# Altium integrated library Linear Technology Power Management Switching Regulator LTC1174-LTC3901.IntLib: 2647 symbols (part 159 of 364)
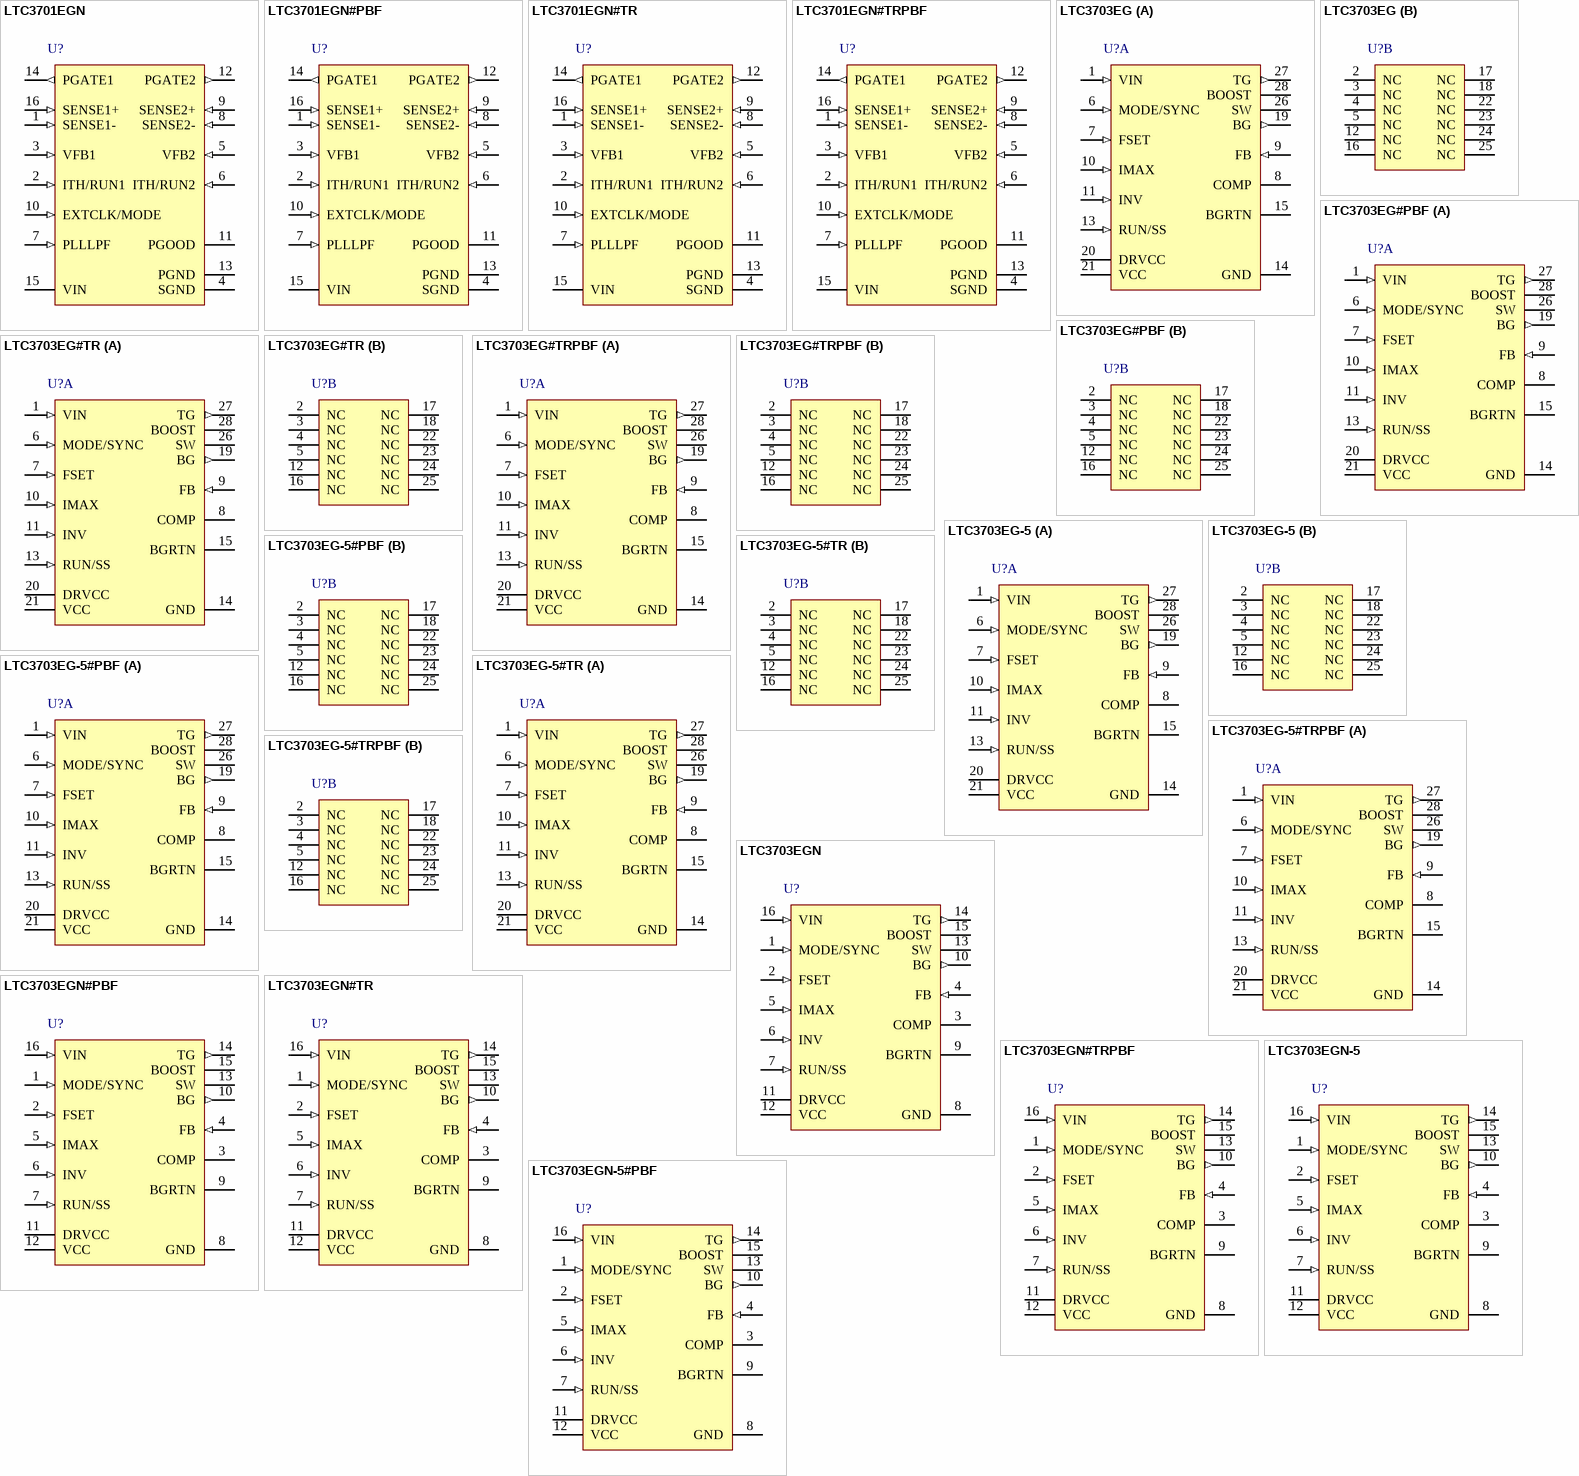
[diagram p196: symbols LTC3701EGN to LTC3703EGN-5#PBF]

## LTC3703EGN#PBF
designator U?
Synchronous Switching Regulator Controller, 16-pin SOP (GN-16), -40 to 85 degC, Pb-Free; Manufacturer: Linear Technology; PartNumber: LTC3703EGN#PBF; Frequency Sync Range: Up to 600kHz; Number of Outputs: 1; DatasheetVersion: Rev. C; PackageVersion: Rev. B, 03/2012; PackageReference: GN-16; PackageDescription: 16-Pin Plastic SSOP, Body 4.9 x 3.9 mm, Pitch 0.635 mm; Supplier 1: Digi-Key; Supplier Part Number 1: LTC3703EGN#PBF-ND; Supplier 2: Farnell; Supplier Part Number 2: 1663716; Supplier 3: Newark; Supplier Part Number 3: 56M8053; RoHS: TRUE; Mounting Technology: Surface Mount; ComponentLink1Description: Manufacturer URL; ComponentLink1URL: http://www.linear.com/; ComponentLink2Description: Datasheet; ComponentLink2URL: http://cds.linear.com/docs/en/datasheet/3703fc.pdf; ComponentLink3Description: Package Specification; ComponentLink3URL: http://cds.linear.com/docs/en/packaging/05081641_B_GN16.pdf
footprint LT-GN-16_N (SOP, 16-Leads, Body 5x4mm, Pitch 0.635mm, IPC Medium Density)
footprint LT-GN-16_L (SOP, 16-Leads, Body 5x4mm, Pitch 0.635mm, IPC High Density)
footprint LT-GN-16_M (SOP, 16-Leads, Body 5x4mm, Pitch 0.635mm, IPC Low Density)
pins: 1 MODE/SYNC (in) "Pulse Skip Mode Enable/Sync Pin. This multifunction pin provides Pulse Skip Mode enable/disable control and an external clock input for synchronization of the internal oscillator. Pulling this pin below 0.8V or to an (See Datasheet)", 2 FSET (in) "Frequency Set. A resistor connected to this pin sets the free running frequency of the internal oscillator. See applications section for resistor value selection details.", 3 COMP "Loop Compensation. This pin is connected directly to the output of the internal error amplifier. An RC network is used at the COMP pin to compensate the feedback loop for optimal transient response.", 4 FB (in) "Feedback Input. Connect FB through a resistor divider network to VOUT to set the output voltage. Also connect the loop compensation network from COMP to FB.", 5 IMAX (in) "Current Limit Set. The IMAX pin sets the current limit comparator threshold. If the voltage drop across the bottom MOSFET exceeds the magnitude of the voltage at IMAX, the controller goes into current limit. The IMAX pin has (See Datasheet)", 6 INV (in) "Top/Bottom Gate Invert. Pulling this pin above 2V sets the controller to operate in step-up (boost) mode with the TG output driving the synchronous MOSFET and the BG output driving the main switch. Below 1V, the controller (See Datasheet)", 7 RUN/SS (in) "Run/Soft-Start. Pulling RUN/SS below 0.9V will shut down the LTC3703, turn off both of the external MOSFET switches and reduce the quiescent supply current to 50uA. A capacitor from RUN/SS to ground will control the turn-on (See Datasheet)", 8 GND (power) "Ground Pin.", 9 BGRTN "Bottom Gate Return. This pin connects to the source of the pull-down MOSFET in the BG driver and is normally connected to ground. Connecting negative supply to this pin allows the synchronous MOSFET’s gate to be pulle(See Datasheet)", 10 BG (out) "Bottom Gate Drive. The BG pin drives the gate of the bottom N-channel synchronous switch MOSFET. This pin swings from BGRTN to DRVCC.", 11 DRVCC (power) "Driver Power Supply Pin. DRVCC provides power to the BG output driver. This pin should be connected to a voltage high enough to fully turn on the external MOSFETs, normally 10V to 15V for logic level threshold MOSFETs. DRVCC (See Datasheet)", 12 VCC (power) "Main Supply Pin. All internal circuits except the output drivers are powered from this pin. VCC should be connected to a low noise power supply voltage between 9V and 15V and should be bypassed to GND (Pin 8) with at least a (See Datasheet)", 13 SW "Switch Node Connection to Inductor and Bootstrap Capacitor. Voltage swing at this pin is from a Schottky diode (external) voltage drop below ground VIN.", 14 TG (out) "Top Gate Drive. The TG pin drives the gate of the top N channel synchronous switch MOSFET. The TG driver draws power from the BOOST pin and returns the SW pin, providing true floating drive to the top MOSFET.", 15 BOOST "Top Gate Driver Supply. The BOOST pin supplies power to the floating TG driver. The BOOST pin should be bypassed to SW with a low ESR (X5R or better) 0.1uF ceramic capacitor. An additional fast recovery Schottky diode from (See Datasheet)", 16 VIN (in) "Input Voltage Sense Pin. This pin is connected to the high voltage input of the regulator and is used by the internal feedforward compensation circuitry to improve line regulation. This is not a supply pin."

## LTC3703EGN#TR
designator U?
Synchronous Switching Regulator Controller, 16-pin SOP (GN-16), -40 to 85 degC, Tape and Reel; Manufacturer: Linear Technology; PartNumber: LTC3703EGN#TR; Frequency Sync Range: Up to 600kHz; Number of Outputs: 1; DatasheetVersion: Rev. C; PackageVersion: Rev. B, 03/2012; PackageReference: GN-16; PackageDescription: 16-Pin Plastic SSOP, Body 4.9 x 3.9 mm, Pitch 0.635 mm; Supplier 1: Digi-Key; Supplier Part Number 1: LTC3703EGN#TR-ND; Packing: Tape and Reel; RoHS: FALSE; Mounting Technology: Surface Mount; ComponentLink1Description: Manufacturer URL; ComponentLink1URL: http://www.linear.com/; ComponentLink2Description: Datasheet; ComponentLink2URL: http://cds.linear.com/docs/en/datasheet/3703fc.pdf; ComponentLink3Description: Package Specification; ComponentLink3URL: http://cds.linear.com/docs/en/packaging/05081641_B_GN16.pdf
footprint LT-GN-16_N (SOP, 16-Leads, Body 5x4mm, Pitch 0.635mm, IPC Medium Density)
footprint LT-GN-16_L (SOP, 16-Leads, Body 5x4mm, Pitch 0.635mm, IPC High Density)
footprint LT-GN-16_M (SOP, 16-Leads, Body 5x4mm, Pitch 0.635mm, IPC Low Density)
pins: 1 MODE/SYNC (in) "Pulse Skip Mode Enable/Sync Pin. This multifunction pin provides Pulse Skip Mode enable/disable control and an external clock input for synchronization of the internal oscillator. Pulling this pin below 0.8V or to an (See Datasheet)", 2 FSET (in) "Frequency Set. A resistor connected to this pin sets the free running frequency of the internal oscillator. See applications section for resistor value selection details.", 3 COMP "Loop Compensation. This pin is connected directly to the output of the internal error amplifier. An RC network is used at the COMP pin to compensate the feedback loop for optimal transient response.", 4 FB (in) "Feedback Input. Connect FB through a resistor divider network to VOUT to set the output voltage. Also connect the loop compensation network from COMP to FB.", 5 IMAX (in) "Current Limit Set. The IMAX pin sets the current limit comparator threshold. If the voltage drop across the bottom MOSFET exceeds the magnitude of the voltage at IMAX, the controller goes into current limit. The IMAX pin has (See Datasheet)", 6 INV (in) "Top/Bottom Gate Invert. Pulling this pin above 2V sets the controller to operate in step-up (boost) mode with the TG output driving the synchronous MOSFET and the BG output driving the main switch. Below 1V, the controller (See Datasheet)", 7 RUN/SS (in) "Run/Soft-Start. Pulling RUN/SS below 0.9V will shut down the LTC3703, turn off both of the external MOSFET switches and reduce the quiescent supply current to 50uA. A capacitor from RUN/SS to ground will control the turn-on (See Datasheet)", 8 GND (power) "Ground Pin.", 9 BGRTN "Bottom Gate Return. This pin connects to the source of the pull-down MOSFET in the BG driver and is normally connected to ground. Connecting negative supply to this pin allows the synchronous MOSFET’s gate to be pulle(See Datasheet)", 10 BG (out) "Bottom Gate Drive. The BG pin drives the gate of the bottom N-channel synchronous switch MOSFET. This pin swings from BGRTN to DRVCC.", 11 DRVCC (power) "Driver Power Supply Pin. DRVCC provides power to the BG output driver. This pin should be connected to a voltage high enough to fully turn on the external MOSFETs, normally 10V to 15V for logic level threshold MOSFETs. DRVCC (See Datasheet)", 12 VCC (power) "Main Supply Pin. All internal circuits except the output drivers are powered from this pin. VCC should be connected to a low noise power supply voltage between 9V and 15V and should be bypassed to GND (Pin 8) with at least a (See Datasheet)", 13 SW "Switch Node Connection to Inductor and Bootstrap Capacitor. Voltage swing at this pin is from a Schottky diode (external) voltage drop below ground VIN.", 14 TG (out) "Top Gate Drive. The TG pin drives the gate of the top N channel synchronous switch MOSFET. The TG driver draws power from the BOOST pin and returns the SW pin, providing true floating drive to the top MOSFET.", 15 BOOST "Top Gate Driver Supply. The BOOST pin supplies power to the floating TG driver. The BOOST pin should be bypassed to SW with a low ESR (X5R or better) 0.1uF ceramic capacitor. An additional fast recovery Schottky diode from (See Datasheet)", 16 VIN (in) "Input Voltage Sense Pin. This pin is connected to the high voltage input of the regulator and is used by the internal feedforward compensation circuitry to improve line regulation. This is not a supply pin."

## LTC3703EGN#TRPBF
designator U?
Synchronous Switching Regulator Controller, 16-pin SOP (GN-16), -40 to 85 degC, Pb-Free, Tape and Reel; Manufacturer: Linear Technology; PartNumber: LTC3703EGN#TRPBF; Frequency Sync Range: Up to 600kHz; Number of Outputs: 1; DatasheetVersion: Rev. C; PackageVersion: Rev. B, 03/2012; PackageReference: GN-16; PackageDescription: 16-Pin Plastic SSOP, Body 4.9 x 3.9 mm, Pitch 0.635 mm; Supplier 1: Digi-Key; Supplier Part Number 1: LTC3703EGN#TRPBF-ND; Supplier 2: Newark; Supplier Part Number 2: 56M8055; Packing: Tape and Reel; RoHS: TRUE; Mounting Technology: Surface Mount; ComponentLink1Description: Manufacturer URL; ComponentLink1URL: http://www.linear.com/; ComponentLink2Description: Datasheet; ComponentLink2URL: http://cds.linear.com/docs/en/datasheet/3703fc.pdf; ComponentLink3Description: Package Specification; ComponentLink3URL: http://cds.linear.com/docs/en/packaging/05081641_B_GN16.pdf
footprint LT-GN-16_N (SOP, 16-Leads, Body 5x4mm, Pitch 0.635mm, IPC Medium Density)
footprint LT-GN-16_L (SOP, 16-Leads, Body 5x4mm, Pitch 0.635mm, IPC High Density)
footprint LT-GN-16_M (SOP, 16-Leads, Body 5x4mm, Pitch 0.635mm, IPC Low Density)
pins: 1 MODE/SYNC (in) "Pulse Skip Mode Enable/Sync Pin. This multifunction pin provides Pulse Skip Mode enable/disable control and an external clock input for synchronization of the internal oscillator. Pulling this pin below 0.8V or to an (See Datasheet)", 2 FSET (in) "Frequency Set. A resistor connected to this pin sets the free running frequency of the internal oscillator. See applications section for resistor value selection details.", 3 COMP "Loop Compensation. This pin is connected directly to the output of the internal error amplifier. An RC network is used at the COMP pin to compensate the feedback loop for optimal transient response.", 4 FB (in) "Feedback Input. Connect FB through a resistor divider network to VOUT to set the output voltage. Also connect the loop compensation network from COMP to FB.", 5 IMAX (in) "Current Limit Set. The IMAX pin sets the current limit comparator threshold. If the voltage drop across the bottom MOSFET exceeds the magnitude of the voltage at IMAX, the controller goes into current limit. The IMAX pin has (See Datasheet)", 6 INV (in) "Top/Bottom Gate Invert. Pulling this pin above 2V sets the controller to operate in step-up (boost) mode with the TG output driving the synchronous MOSFET and the BG output driving the main switch. Below 1V, the controller (See Datasheet)", 7 RUN/SS (in) "Run/Soft-Start. Pulling RUN/SS below 0.9V will shut down the LTC3703, turn off both of the external MOSFET switches and reduce the quiescent supply current to 50uA. A capacitor from RUN/SS to ground will control the turn-on (See Datasheet)", 8 GND (power) "Ground Pin.", 9 BGRTN "Bottom Gate Return. This pin connects to the source of the pull-down MOSFET in the BG driver and is normally connected to ground. Connecting negative supply to this pin allows the synchronous MOSFET’s gate to be pulle(See Datasheet)", 10 BG (out) "Bottom Gate Drive. The BG pin drives the gate of the bottom N-channel synchronous switch MOSFET. This pin swings from BGRTN to DRVCC.", 11 DRVCC (power) "Driver Power Supply Pin. DRVCC provides power to the BG output driver. This pin should be connected to a voltage high enough to fully turn on the external MOSFETs, normally 10V to 15V for logic level threshold MOSFETs. DRVCC (See Datasheet)", 12 VCC (power) "Main Supply Pin. All internal circuits except the output drivers are powered from this pin. VCC should be connected to a low noise power supply voltage between 9V and 15V and should be bypassed to GND (Pin 8) with at least a (See Datasheet)", 13 SW "Switch Node Connection to Inductor and Bootstrap Capacitor. Voltage swing at this pin is from a Schottky diode (external) voltage drop below ground VIN.", 14 TG (out) "Top Gate Drive. The TG pin drives the gate of the top N channel synchronous switch MOSFET. The TG driver draws power from the BOOST pin and returns the SW pin, providing true floating drive to the top MOSFET.", 15 BOOST "Top Gate Driver Supply. The BOOST pin supplies power to the floating TG driver. The BOOST pin should be bypassed to SW with a low ESR (X5R or better) 0.1uF ceramic capacitor. An additional fast recovery Schottky diode from (See Datasheet)", 16 VIN (in) "Input Voltage Sense Pin. This pin is connected to the high voltage input of the regulator and is used by the internal feedforward compensation circuitry to improve line regulation. This is not a supply pin."

## LTC3703EGN-5
designator U?
Synchronous Switching Regulator Controller, 16-pin SOP (GN-16), -40 to 85 degC; Manufacturer: Linear Technology; PartNumber: LTC3703EGN-5; Frequency Sync Range: Up to 600kHz; Number of Outputs: 1; DatasheetVersion: Rev. A; PackageVersion: Rev. B, 03/2012; PackageReference: GN-16; PackageDescription: 16-Pin Plastic SSOP, Body 4.9 x 3.9 mm, Pitch 0.635 mm; Supplier 1: Digi-Key; Supplier Part Number 1: LTC3703EGN-5-ND; Supplier 2: Newark; Supplier Part Number 2: 56M8049; RoHS: FALSE; Mounting Technology: Surface Mount; ComponentLink1Description: Manufacturer URL; ComponentLink1URL: http://www.linear.com/; ComponentLink2Description: Datasheet; ComponentLink2URL: http://cds.linear.com/docs/en/datasheet/37035fa.pdf; ComponentLink3Description: Package Specification; ComponentLink3URL: http://cds.linear.com/docs/en/packaging/05081641_B_GN16.pdf
footprint LT-GN-16_N (SOP, 16-Leads, Body 5x4mm, Pitch 0.635mm, IPC Medium Density)
footprint LT-GN-16_L (SOP, 16-Leads, Body 5x4mm, Pitch 0.635mm, IPC High Density)
footprint LT-GN-16_M (SOP, 16-Leads, Body 5x4mm, Pitch 0.635mm, IPC Low Density)
pins: 1 MODE/SYNC (in) "Pulse Skip Mode Enable/Sync Pin. This multifunction pin provides Pulse Skip Mode enable/disable control and an external clock input for synchronization of the internal oscillator. Pulling this pin below 0.8V or to an (See Datasheet)", 2 FSET (in) "Frequency Set. A resistor connected to this pin sets the free running frequency of the internal oscillator. See applications section for resistor value selection details.", 3 COMP "Loop Compensation. This pin is connected directly to the output of the internal error amplifier. An RC network is used at the COMP pin to compensate the feedback loop for optimal transient response.", 4 FB (in) "Feedback Input. Connect FB through a resistor divider network to VOUT to set the output voltage. Also connect the loop compensation network from COMP to FB.", 5 IMAX (in) "Current Limit Set. The IMAX pin sets the current limit comparator threshold. If the voltage drop across the bottom MOSFET exceeds the magnitude of the voltage at IMAX, the controller goes into current limit. The IMAX pin has (See Datasheet)", 6 INV (in) "Top/Bottom Gate Invert. Pulling this pin above 2V sets the controller to operate in step-up (boost) mode with the TG output driving the synchronous MOSFET and the BG output driving the main switch. Below 1V, the controller (See Datasheet)", 7 RUN/SS (in) "Run/Soft-Start. Pulling RUN/SS below 0.9V will shut down the LTC3703-5, turn off both of the external MOSFET switches and reduce the quiescent supply current to 25uA. A capacitor from RUN/SS to ground will control the (See Datasheet)", 8 GND (power) "Ground Pin.", 9 BGRTN "Bottom Gate Return. This pin connects to the source of the pull-down MOSFET in the BG driver and is normally connected to ground. Connecting negative supply to this pin allows the synchronous MOSFET’s gate to be pulle(See Datasheet)", 10 BG (out) "Bottom Gate Drive. The BG pin drives the gate of the bottom N-channel synchronous switch MOSFET. This pin swings from BGRTN to DRVCC.", 11 DRVCC (power) "Driver Power Supply Pin. DRVCC provides power to the BG output driver. This pin should be connected to a voltage high enough to fully turn on the external MOSFETs, normally 4.5V to 15V for logic level threshold MOSFETs. (See Datasheet)", 12 VCC (power) "Main Supply Pin. All internal circuits except the output drivers are powered from this pin. VCC should be connected to a low noise power supply voltage between 4.5V and 15V and should be bypassed to GND (Pin 8) with at least (See Datasheet)", 13 SW "Switch Node Connection to Inductor and Bootstrap Capacitor. Voltage swing at this pin is from a Schottky diode (external) voltage drop below ground VIN.", 14 TG (out) "Top Gate Drive. The TG pin drives the gate of the top N channel synchronous switch MOSFET. The TG driver draws power from the BOOST pin and returns the SW pin, providing true floating drive to the top MOSFET.", 15 BOOST "Top Gate Driver Supply. The BOOST pin supplies power to the floating TG driver. The BOOST pin should be bypassed to SW with a low ESR (X5R or better) 0.1uF ceramic capacitor. An additional fast recovery Schottky diode from (See Datasheet)", 16 VIN (in) "Input Voltage Sense Pin. This pin is connected to the high voltage input of the regulator and is used by the internal feedforward compensation circuitry to improve line regulation. This is not a supply pin."

## LTC3703EGN-5#PBF
designator U?
Synchronous Switching Regulator Controller, 16-pin SOP (GN-16), -40 to 85 degC, Pb-Free; Manufacturer: Linear Technology; PartNumber: LTC3703EGN-5#PBF; Frequency Sync Range: Up to 600kHz; Number of Outputs: 1; DatasheetVersion: Rev. A; PackageVersion: Rev. B, 03/2012; PackageReference: GN-16; PackageDescription: 16-Pin Plastic SSOP, Body 4.9 x 3.9 mm, Pitch 0.635 mm; Supplier 1: Digi-Key; Supplier Part Number 1: LTC3703EGN-5#PBF-ND; Supplier 2: Farnell; Supplier Part Number 2: 2115932; Supplier 3: Newark; Supplier Part Number 3: 56M8050; RoHS: TRUE; Mounting Technology: Surface Mount; ComponentLink1Description: Manufacturer URL; ComponentLink1URL: http://www.linear.com/; ComponentLink2Description: Datasheet; ComponentLink2URL: http://cds.linear.com/docs/en/datasheet/37035fa.pdf; ComponentLink3Description: Package Specification; ComponentLink3URL: http://cds.linear.com/docs/en/packaging/05081641_B_GN16.pdf
footprint LT-GN-16_N (SOP, 16-Leads, Body 5x4mm, Pitch 0.635mm, IPC Medium Density)
footprint LT-GN-16_L (SOP, 16-Leads, Body 5x4mm, Pitch 0.635mm, IPC High Density)
footprint LT-GN-16_M (SOP, 16-Leads, Body 5x4mm, Pitch 0.635mm, IPC Low Density)
pins: 1 MODE/SYNC (in) "Pulse Skip Mode Enable/Sync Pin. This multifunction pin provides Pulse Skip Mode enable/disable control and an external clock input for synchronization of the internal oscillator. Pulling this pin below 0.8V or to an (See Datasheet)", 2 FSET (in) "Frequency Set. A resistor connected to this pin sets the free running frequency of the internal oscillator. See applications section for resistor value selection details.", 3 COMP "Loop Compensation. This pin is connected directly to the output of the internal error amplifier. An RC network is used at the COMP pin to compensate the feedback loop for optimal transient response.", 4 FB (in) "Feedback Input. Connect FB through a resistor divider network to VOUT to set the output voltage. Also connect the loop compensation network from COMP to FB.", 5 IMAX (in) "Current Limit Set. The IMAX pin sets the current limit comparator threshold. If the voltage drop across the bottom MOSFET exceeds the magnitude of the voltage at IMAX, the controller goes into current limit. The IMAX pin has (See Datasheet)", 6 INV (in) "Top/Bottom Gate Invert. Pulling this pin above 2V sets the controller to operate in step-up (boost) mode with the TG output driving the synchronous MOSFET and the BG output driving the main switch. Below 1V, the controller (See Datasheet)", 7 RUN/SS (in) "Run/Soft-Start. Pulling RUN/SS below 0.9V will shut down the LTC3703-5, turn off both of the external MOSFET switches and reduce the quiescent supply current to 25uA. A capacitor from RUN/SS to ground will control the (See Datasheet)", 8 GND (power) "Ground Pin.", 9 BGRTN "Bottom Gate Return. This pin connects to the source of the pull-down MOSFET in the BG driver and is normally connected to ground. Connecting negative supply to this pin allows the synchronous MOSFET’s gate to be pulle(See Datasheet)", 10 BG (out) "Bottom Gate Drive. The BG pin drives the gate of the bottom N-channel synchronous switch MOSFET. This pin swings from BGRTN to DRVCC.", 11 DRVCC (power) "Driver Power Supply Pin. DRVCC provides power to the BG output driver. This pin should be connected to a voltage high enough to fully turn on the external MOSFETs, normally 4.5V to 15V for logic level threshold MOSFETs. (See Datasheet)", 12 VCC (power) "Main Supply Pin. All internal circuits except the output drivers are powered from this pin. VCC should be connected to a low noise power supply voltage between 4.5V and 15V and should be bypassed to GND (Pin 8) with at least (See Datasheet)", 13 SW "Switch Node Connection to Inductor and Bootstrap Capacitor. Voltage swing at this pin is from a Schottky diode (external) voltage drop below ground VIN.", 14 TG (out) "Top Gate Drive. The TG pin drives the gate of the top N channel synchronous switch MOSFET. The TG driver draws power from the BOOST pin and returns the SW pin, providing true floating drive to the top MOSFET.", 15 BOOST "Top Gate Driver Supply. The BOOST pin supplies power to the floating TG driver. The BOOST pin should be bypassed to SW with a low ESR (X5R or better) 0.1uF ceramic capacitor. An additional fast recovery Schottky diode from (See Datasheet)", 16 VIN (in) "Input Voltage Sense Pin. This pin is connected to the high voltage input of the regulator and is used by the internal feedforward compensation circuitry to improve line regulation. This is not a supply pin."

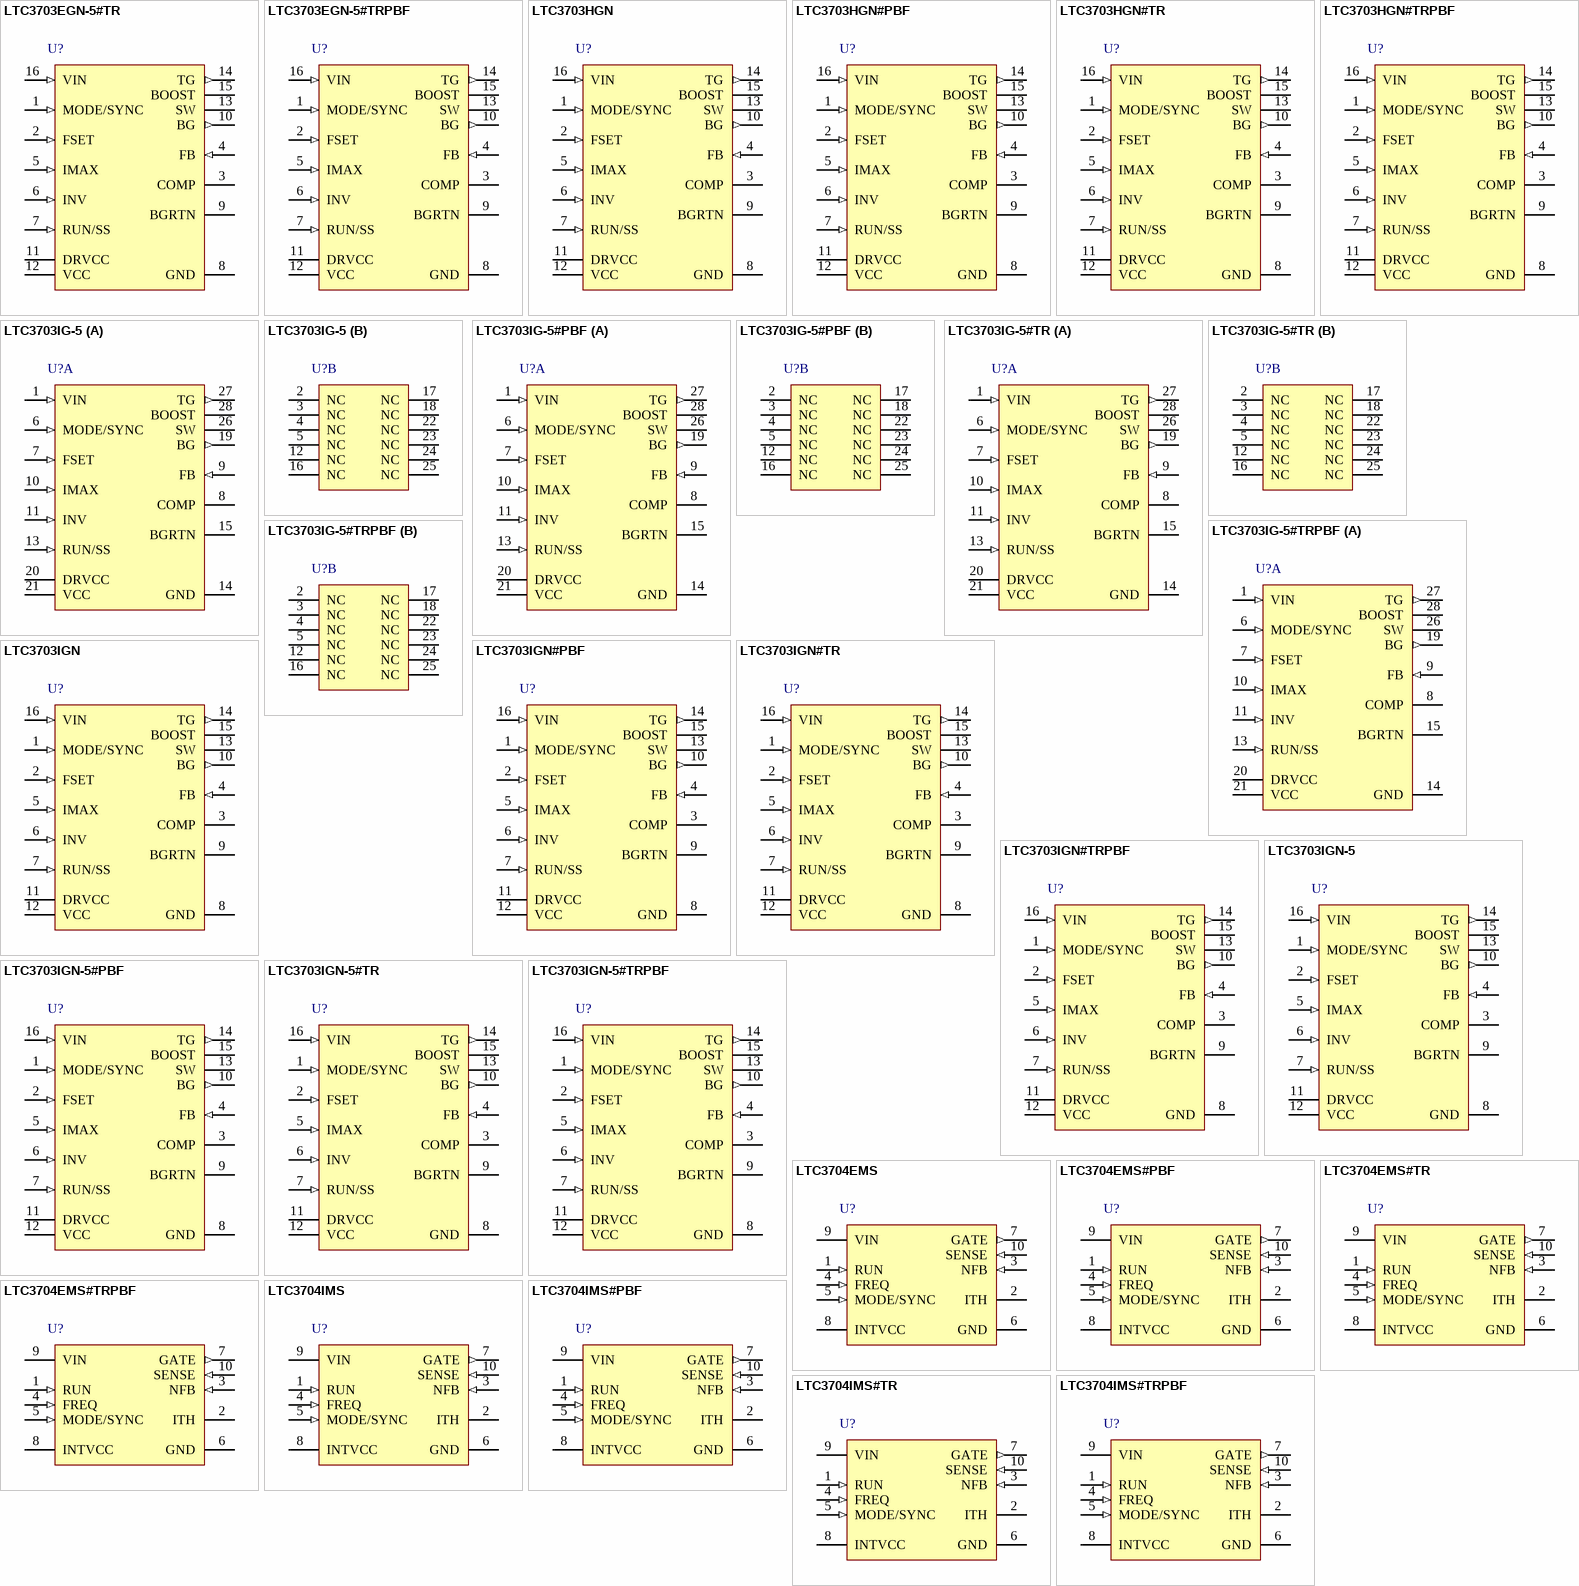
[diagram p51: symbols LTC3703EGN-5#TR to LTC3704IMS#TRPBF]

## LTC3703EGN-5#TR
designator U?
Synchronous Switching Regulator Controller, 16-pin SOP (GN-16), -40 to 85 degC, Tape and Reel; Manufacturer: Linear Technology; PartNumber: LTC3703EGN-5#TR; Frequency Sync Range: Up to 600kHz; Number of Outputs: 1; DatasheetVersion: Rev. A; PackageVersion: Rev. B, 03/2012; PackageReference: GN-16; PackageDescription: 16-Pin Plastic SSOP, Body 4.9 x 3.9 mm, Pitch 0.635 mm; Supplier 1: Digi-Key; Supplier Part Number 1: LTC3703EGN-5#TR-ND; Packing: Tape and Reel; RoHS: FALSE; Mounting Technology: Surface Mount; ComponentLink1Description: Manufacturer URL; ComponentLink1URL: http://www.linear.com/; ComponentLink2Description: Datasheet; ComponentLink2URL: http://cds.linear.com/docs/en/datasheet/37035fa.pdf; ComponentLink3Description: Package Specification; ComponentLink3URL: http://cds.linear.com/docs/en/packaging/05081641_B_GN16.pdf
footprint LT-GN-16_N (SOP, 16-Leads, Body 5x4mm, Pitch 0.635mm, IPC Medium Density)
footprint LT-GN-16_L (SOP, 16-Leads, Body 5x4mm, Pitch 0.635mm, IPC High Density)
footprint LT-GN-16_M (SOP, 16-Leads, Body 5x4mm, Pitch 0.635mm, IPC Low Density)
pins: 1 MODE/SYNC (in) "Pulse Skip Mode Enable/Sync Pin. This multifunction pin provides Pulse Skip Mode enable/disable control and an external clock input for synchronization of the internal oscillator. Pulling this pin below 0.8V or to an (See Datasheet)", 2 FSET (in) "Frequency Set. A resistor connected to this pin sets the free running frequency of the internal oscillator. See applications section for resistor value selection details.", 3 COMP "Loop Compensation. This pin is connected directly to the output of the internal error amplifier. An RC network is used at the COMP pin to compensate the feedback loop for optimal transient response.", 4 FB (in) "Feedback Input. Connect FB through a resistor divider network to VOUT to set the output voltage. Also connect the loop compensation network from COMP to FB.", 5 IMAX (in) "Current Limit Set. The IMAX pin sets the current limit comparator threshold. If the voltage drop across the bottom MOSFET exceeds the magnitude of the voltage at IMAX, the controller goes into current limit. The IMAX pin has (See Datasheet)", 6 INV (in) "Top/Bottom Gate Invert. Pulling this pin above 2V sets the controller to operate in step-up (boost) mode with the TG output driving the synchronous MOSFET and the BG output driving the main switch. Below 1V, the controller (See Datasheet)", 7 RUN/SS (in) "Run/Soft-Start. Pulling RUN/SS below 0.9V will shut down the LTC3703-5, turn off both of the external MOSFET switches and reduce the quiescent supply current to 25uA. A capacitor from RUN/SS to ground will control the (See Datasheet)", 8 GND (power) "Ground Pin.", 9 BGRTN "Bottom Gate Return. This pin connects to the source of the pull-down MOSFET in the BG driver and is normally connected to ground. Connecting negative supply to this pin allows the synchronous MOSFET’s gate to be pulle(See Datasheet)", 10 BG (out) "Bottom Gate Drive. The BG pin drives the gate of the bottom N-channel synchronous switch MOSFET. This pin swings from BGRTN to DRVCC.", 11 DRVCC (power) "Driver Power Supply Pin. DRVCC provides power to the BG output driver. This pin should be connected to a voltage high enough to fully turn on the external MOSFETs, normally 4.5V to 15V for logic level threshold MOSFETs. (See Datasheet)", 12 VCC (power) "Main Supply Pin. All internal circuits except the output drivers are powered from this pin. VCC should be connected to a low noise power supply voltage between 4.5V and 15V and should be bypassed to GND (Pin 8) with at least (See Datasheet)", 13 SW "Switch Node Connection to Inductor and Bootstrap Capacitor. Voltage swing at this pin is from a Schottky diode (external) voltage drop below ground VIN.", 14 TG (out) "Top Gate Drive. The TG pin drives the gate of the top N channel synchronous switch MOSFET. The TG driver draws power from the BOOST pin and returns the SW pin, providing true floating drive to the top MOSFET.", 15 BOOST "Top Gate Driver Supply. The BOOST pin supplies power to the floating TG driver. The BOOST pin should be bypassed to SW with a low ESR (X5R or better) 0.1uF ceramic capacitor. An additional fast recovery Schottky diode from (See Datasheet)", 16 VIN (in) "Input Voltage Sense Pin. This pin is connected to the high voltage input of the regulator and is used by the internal feedforward compensation circuitry to improve line regulation. This is not a supply pin."

## LTC3703EGN-5#TRPBF
designator U?
Synchronous Switching Regulator Controller, 16-pin SOP (GN-16), -40 to 85 degC, Pb-Free, Tape and Reel; Manufacturer: Linear Technology; PartNumber: LTC3703EGN-5#TRPBF; Frequency Sync Range: Up to 600kHz; Number of Outputs: 1; DatasheetVersion: Rev. A; PackageVersion: Rev. B, 03/2012; PackageReference: GN-16; PackageDescription: 16-Pin Plastic SSOP, Body 4.9 x 3.9 mm, Pitch 0.635 mm; Supplier 1: Digi-Key; Supplier Part Number 1: LTC3703EGN-5#TRPBF-ND; Supplier 2: Newark; Supplier Part Number 2: 56M8052; Packing: Tape and Reel; RoHS: TRUE; Mounting Technology: Surface Mount; ComponentLink1Description: Manufacturer URL; ComponentLink1URL: http://www.linear.com/; ComponentLink2Description: Datasheet; ComponentLink2URL: http://cds.linear.com/docs/en/datasheet/37035fa.pdf; ComponentLink3Description: Package Specification; ComponentLink3URL: http://cds.linear.com/docs/en/packaging/05081641_B_GN16.pdf
footprint LT-GN-16_N (SOP, 16-Leads, Body 5x4mm, Pitch 0.635mm, IPC Medium Density)
footprint LT-GN-16_L (SOP, 16-Leads, Body 5x4mm, Pitch 0.635mm, IPC High Density)
footprint LT-GN-16_M (SOP, 16-Leads, Body 5x4mm, Pitch 0.635mm, IPC Low Density)
pins: 1 MODE/SYNC (in) "Pulse Skip Mode Enable/Sync Pin. This multifunction pin provides Pulse Skip Mode enable/disable control and an external clock input for synchronization of the internal oscillator. Pulling this pin below 0.8V or to an (See Datasheet)", 2 FSET (in) "Frequency Set. A resistor connected to this pin sets the free running frequency of the internal oscillator. See applications section for resistor value selection details.", 3 COMP "Loop Compensation. This pin is connected directly to the output of the internal error amplifier. An RC network is used at the COMP pin to compensate the feedback loop for optimal transient response.", 4 FB (in) "Feedback Input. Connect FB through a resistor divider network to VOUT to set the output voltage. Also connect the loop compensation network from COMP to FB.", 5 IMAX (in) "Current Limit Set. The IMAX pin sets the current limit comparator threshold. If the voltage drop across the bottom MOSFET exceeds the magnitude of the voltage at IMAX, the controller goes into current limit. The IMAX pin has (See Datasheet)", 6 INV (in) "Top/Bottom Gate Invert. Pulling this pin above 2V sets the controller to operate in step-up (boost) mode with the TG output driving the synchronous MOSFET and the BG output driving the main switch. Below 1V, the controller (See Datasheet)", 7 RUN/SS (in) "Run/Soft-Start. Pulling RUN/SS below 0.9V will shut down the LTC3703-5, turn off both of the external MOSFET switches and reduce the quiescent supply current to 25uA. A capacitor from RUN/SS to ground will control the (See Datasheet)", 8 GND (power) "Ground Pin.", 9 BGRTN "Bottom Gate Return. This pin connects to the source of the pull-down MOSFET in the BG driver and is normally connected to ground. Connecting negative supply to this pin allows the synchronous MOSFET’s gate to be pulle(See Datasheet)", 10 BG (out) "Bottom Gate Drive. The BG pin drives the gate of the bottom N-channel synchronous switch MOSFET. This pin swings from BGRTN to DRVCC.", 11 DRVCC (power) "Driver Power Supply Pin. DRVCC provides power to the BG output driver. This pin should be connected to a voltage high enough to fully turn on the external MOSFETs, normally 4.5V to 15V for logic level threshold MOSFETs. (See Datasheet)", 12 VCC (power) "Main Supply Pin. All internal circuits except the output drivers are powered from this pin. VCC should be connected to a low noise power supply voltage between 4.5V and 15V and should be bypassed to GND (Pin 8) with at least (See Datasheet)", 13 SW "Switch Node Connection to Inductor and Bootstrap Capacitor. Voltage swing at this pin is from a Schottky diode (external) voltage drop below ground VIN.", 14 TG (out) "Top Gate Drive. The TG pin drives the gate of the top N channel synchronous switch MOSFET. The TG driver draws power from the BOOST pin and returns the SW pin, providing true floating drive to the top MOSFET.", 15 BOOST "Top Gate Driver Supply. The BOOST pin supplies power to the floating TG driver. The BOOST pin should be bypassed to SW with a low ESR (X5R or better) 0.1uF ceramic capacitor. An additional fast recovery Schottky diode from (See Datasheet)", 16 VIN (in) "Input Voltage Sense Pin. This pin is connected to the high voltage input of the regulator and is used by the internal feedforward compensation circuitry to improve line regulation. This is not a supply pin."

## LTC3703HGN
designator U?
Synchronous Switching Regulator Controller, 16-pin SOP (GN-16), -40 to 150 degC; Manufacturer: Linear Technology; PartNumber: LTC3703HGN; Frequency Sync Range: Up to 600kHz; Number of Outputs: 1; DatasheetVersion: Rev. C; PackageVersion: Rev. B, 03/2012; PackageReference: GN-16; PackageDescription: 16-Pin Plastic SSOP, Body 4.9 x 3.9 mm, Pitch 0.635 mm; RoHS: FALSE; Mounting Technology: Surface Mount; ComponentLink1Description: Manufacturer URL; ComponentLink1URL: http://www.linear.com/; ComponentLink2Description: Datasheet; ComponentLink2URL: http://cds.linear.com/docs/en/datasheet/3703fc.pdf; ComponentLink3Description: Package Specification; ComponentLink3URL: http://cds.linear.com/docs/en/packaging/05081641_B_GN16.pdf
footprint LT-GN-16_N (SOP, 16-Leads, Body 5x4mm, Pitch 0.635mm, IPC Medium Density)
footprint LT-GN-16_L (SOP, 16-Leads, Body 5x4mm, Pitch 0.635mm, IPC High Density)
footprint LT-GN-16_M (SOP, 16-Leads, Body 5x4mm, Pitch 0.635mm, IPC Low Density)
pins: 1 MODE/SYNC (in) "Pulse Skip Mode Enable/Sync Pin. This multifunction pin provides Pulse Skip Mode enable/disable control and an external clock input for synchronization of the internal oscillator. Pulling this pin below 0.8V or to an (See Datasheet)", 2 FSET (in) "Frequency Set. A resistor connected to this pin sets the free running frequency of the internal oscillator. See applications section for resistor value selection details.", 3 COMP "Loop Compensation. This pin is connected directly to the output of the internal error amplifier. An RC network is used at the COMP pin to compensate the feedback loop for optimal transient response.", 4 FB (in) "Feedback Input. Connect FB through a resistor divider network to VOUT to set the output voltage. Also connect the loop compensation network from COMP to FB.", 5 IMAX (in) "Current Limit Set. The IMAX pin sets the current limit comparator threshold. If the voltage drop across the bottom MOSFET exceeds the magnitude of the voltage at IMAX, the controller goes into current limit. The IMAX pin has (See Datasheet)", 6 INV (in) "Top/Bottom Gate Invert. Pulling this pin above 2V sets the controller to operate in step-up (boost) mode with the TG output driving the synchronous MOSFET and the BG output driving the main switch. Below 1V, the controller (See Datasheet)", 7 RUN/SS (in) "Run/Soft-Start. Pulling RUN/SS below 0.9V will shut down the LTC3703, turn off both of the external MOSFET switches and reduce the quiescent supply current to 50uA. A capacitor from RUN/SS to ground will control the turn-on (See Datasheet)", 8 GND (power) "Ground Pin.", 9 BGRTN "Bottom Gate Return. This pin connects to the source of the pull-down MOSFET in the BG driver and is normally connected to ground. Connecting negative supply to this pin allows the synchronous MOSFET’s gate to be pulle(See Datasheet)", 10 BG (out) "Bottom Gate Drive. The BG pin drives the gate of the bottom N-channel synchronous switch MOSFET. This pin swings from BGRTN to DRVCC.", 11 DRVCC (power) "Driver Power Supply Pin. DRVCC provides power to the BG output driver. This pin should be connected to a voltage high enough to fully turn on the external MOSFETs, normally 10V to 15V for logic level threshold MOSFETs. DRVCC (See Datasheet)", 12 VCC (power) "Main Supply Pin. All internal circuits except the output drivers are powered from this pin. VCC should be connected to a low noise power supply voltage between 9V and 15V and should be bypassed to GND (Pin 8) with at least a (See Datasheet)", 13 SW "Switch Node Connection to Inductor and Bootstrap Capacitor. Voltage swing at this pin is from a Schottky diode (external) voltage drop below ground VIN.", 14 TG (out) "Top Gate Drive. The TG pin drives the gate of the top N channel synchronous switch MOSFET. The TG driver draws power from the BOOST pin and returns the SW pin, providing true floating drive to the top MOSFET.", 15 BOOST "Top Gate Driver Supply. The BOOST pin supplies power to the floating TG driver. The BOOST pin should be bypassed to SW with a low ESR (X5R or better) 0.1uF ceramic capacitor. An additional fast recovery Schottky diode from (See Datasheet)", 16 VIN (in) "Input Voltage Sense Pin. This pin is connected to the high voltage input of the regulator and is used by the internal feedforward compensation circuitry to improve line regulation. This is not a supply pin."

## LTC3703HGN#PBF
designator U?
Synchronous Switching Regulator Controller, 16-pin SOP (GN-16), -40 to 150 degC, Pb-Free; Manufacturer: Linear Technology; PartNumber: LTC3703HGN#PBF; Frequency Sync Range: Up to 600kHz; Number of Outputs: 1; DatasheetVersion: Rev. C; PackageVersion: Rev. B, 03/2012; PackageReference: GN-16; PackageDescription: 16-Pin Plastic SSOP, Body 4.9 x 3.9 mm, Pitch 0.635 mm; Supplier 1: Digi-Key; Supplier Part Number 1: LTC3703HGN#PBF-ND; Supplier 2: Newark; Supplier Part Number 2: 56M8057; RoHS: TRUE; Mounting Technology: Surface Mount; ComponentLink1Description: Manufacturer URL; ComponentLink1URL: http://www.linear.com/; ComponentLink2Description: Datasheet; ComponentLink2URL: http://cds.linear.com/docs/en/datasheet/3703fc.pdf; ComponentLink3Description: Package Specification; ComponentLink3URL: http://cds.linear.com/docs/en/packaging/05081641_B_GN16.pdf
footprint LT-GN-16_N (SOP, 16-Leads, Body 5x4mm, Pitch 0.635mm, IPC Medium Density)
footprint LT-GN-16_L (SOP, 16-Leads, Body 5x4mm, Pitch 0.635mm, IPC High Density)
footprint LT-GN-16_M (SOP, 16-Leads, Body 5x4mm, Pitch 0.635mm, IPC Low Density)
pins: 1 MODE/SYNC (in) "Pulse Skip Mode Enable/Sync Pin. This multifunction pin provides Pulse Skip Mode enable/disable control and an external clock input for synchronization of the internal oscillator. Pulling this pin below 0.8V or to an (See Datasheet)", 2 FSET (in) "Frequency Set. A resistor connected to this pin sets the free running frequency of the internal oscillator. See applications section for resistor value selection details.", 3 COMP "Loop Compensation. This pin is connected directly to the output of the internal error amplifier. An RC network is used at the COMP pin to compensate the feedback loop for optimal transient response.", 4 FB (in) "Feedback Input. Connect FB through a resistor divider network to VOUT to set the output voltage. Also connect the loop compensation network from COMP to FB.", 5 IMAX (in) "Current Limit Set. The IMAX pin sets the current limit comparator threshold. If the voltage drop across the bottom MOSFET exceeds the magnitude of the voltage at IMAX, the controller goes into current limit. The IMAX pin has (See Datasheet)", 6 INV (in) "Top/Bottom Gate Invert. Pulling this pin above 2V sets the controller to operate in step-up (boost) mode with the TG output driving the synchronous MOSFET and the BG output driving the main switch. Below 1V, the controller (See Datasheet)", 7 RUN/SS (in) "Run/Soft-Start. Pulling RUN/SS below 0.9V will shut down the LTC3703, turn off both of the external MOSFET switches and reduce the quiescent supply current to 50uA. A capacitor from RUN/SS to ground will control the turn-on (See Datasheet)", 8 GND (power) "Ground Pin.", 9 BGRTN "Bottom Gate Return. This pin connects to the source of the pull-down MOSFET in the BG driver and is normally connected to ground. Connecting negative supply to this pin allows the synchronous MOSFET’s gate to be pulle(See Datasheet)", 10 BG (out) "Bottom Gate Drive. The BG pin drives the gate of the bottom N-channel synchronous switch MOSFET. This pin swings from BGRTN to DRVCC.", 11 DRVCC (power) "Driver Power Supply Pin. DRVCC provides power to the BG output driver. This pin should be connected to a voltage high enough to fully turn on the external MOSFETs, normally 10V to 15V for logic level threshold MOSFETs. DRVCC (See Datasheet)", 12 VCC (power) "Main Supply Pin. All internal circuits except the output drivers are powered from this pin. VCC should be connected to a low noise power supply voltage between 9V and 15V and should be bypassed to GND (Pin 8) with at least a (See Datasheet)", 13 SW "Switch Node Connection to Inductor and Bootstrap Capacitor. Voltage swing at this pin is from a Schottky diode (external) voltage drop below ground VIN.", 14 TG (out) "Top Gate Drive. The TG pin drives the gate of the top N channel synchronous switch MOSFET. The TG driver draws power from the BOOST pin and returns the SW pin, providing true floating drive to the top MOSFET.", 15 BOOST "Top Gate Driver Supply. The BOOST pin supplies power to the floating TG driver. The BOOST pin should be bypassed to SW with a low ESR (X5R or better) 0.1uF ceramic capacitor. An additional fast recovery Schottky diode from (See Datasheet)", 16 VIN (in) "Input Voltage Sense Pin. This pin is connected to the high voltage input of the regulator and is used by the internal feedforward compensation circuitry to improve line regulation. This is not a supply pin."

## LTC3703HGN#TR
designator U?
Synchronous Switching Regulator Controller, 16-pin SOP (GN-16), -40 to 150 degC, Tape and Reel; Manufacturer: Linear Technology; PartNumber: LTC3703HGN#TR; Frequency Sync Range: Up to 600kHz; Number of Outputs: 1; DatasheetVersion: Rev. C; PackageVersion: Rev. B, 03/2012; PackageReference: GN-16; PackageDescription: 16-Pin Plastic SSOP, Body 4.9 x 3.9 mm, Pitch 0.635 mm; Packing: Tape and Reel; RoHS: FALSE; Mounting Technology: Surface Mount; ComponentLink1Description: Manufacturer URL; ComponentLink1URL: http://www.linear.com/; ComponentLink2Description: Datasheet; ComponentLink2URL: http://cds.linear.com/docs/en/datasheet/3703fc.pdf; ComponentLink3Description: Package Specification; ComponentLink3URL: http://cds.linear.com/docs/en/packaging/05081641_B_GN16.pdf
footprint LT-GN-16_N (SOP, 16-Leads, Body 5x4mm, Pitch 0.635mm, IPC Medium Density)
footprint LT-GN-16_L (SOP, 16-Leads, Body 5x4mm, Pitch 0.635mm, IPC High Density)
footprint LT-GN-16_M (SOP, 16-Leads, Body 5x4mm, Pitch 0.635mm, IPC Low Density)
pins: 1 MODE/SYNC (in) "Pulse Skip Mode Enable/Sync Pin. This multifunction pin provides Pulse Skip Mode enable/disable control and an external clock input for synchronization of the internal oscillator. Pulling this pin below 0.8V or to an (See Datasheet)", 2 FSET (in) "Frequency Set. A resistor connected to this pin sets the free running frequency of the internal oscillator. See applications section for resistor value selection details.", 3 COMP "Loop Compensation. This pin is connected directly to the output of the internal error amplifier. An RC network is used at the COMP pin to compensate the feedback loop for optimal transient response.", 4 FB (in) "Feedback Input. Connect FB through a resistor divider network to VOUT to set the output voltage. Also connect the loop compensation network from COMP to FB.", 5 IMAX (in) "Current Limit Set. The IMAX pin sets the current limit comparator threshold. If the voltage drop across the bottom MOSFET exceeds the magnitude of the voltage at IMAX, the controller goes into current limit. The IMAX pin has (See Datasheet)", 6 INV (in) "Top/Bottom Gate Invert. Pulling this pin above 2V sets the controller to operate in step-up (boost) mode with the TG output driving the synchronous MOSFET and the BG output driving the main switch. Below 1V, the controller (See Datasheet)", 7 RUN/SS (in) "Run/Soft-Start. Pulling RUN/SS below 0.9V will shut down the LTC3703, turn off both of the external MOSFET switches and reduce the quiescent supply current to 50uA. A capacitor from RUN/SS to ground will control the turn-on (See Datasheet)", 8 GND (power) "Ground Pin.", 9 BGRTN "Bottom Gate Return. This pin connects to the source of the pull-down MOSFET in the BG driver and is normally connected to ground. Connecting negative supply to this pin allows the synchronous MOSFET’s gate to be pulle(See Datasheet)", 10 BG (out) "Bottom Gate Drive. The BG pin drives the gate of the bottom N-channel synchronous switch MOSFET. This pin swings from BGRTN to DRVCC.", 11 DRVCC (power) "Driver Power Supply Pin. DRVCC provides power to the BG output driver. This pin should be connected to a voltage high enough to fully turn on the external MOSFETs, normally 10V to 15V for logic level threshold MOSFETs. DRVCC (See Datasheet)", 12 VCC (power) "Main Supply Pin. All internal circuits except the output drivers are powered from this pin. VCC should be connected to a low noise power supply voltage between 9V and 15V and should be bypassed to GND (Pin 8) with at least a (See Datasheet)", 13 SW "Switch Node Connection to Inductor and Bootstrap Capacitor. Voltage swing at this pin is from a Schottky diode (external) voltage drop below ground VIN.", 14 TG (out) "Top Gate Drive. The TG pin drives the gate of the top N channel synchronous switch MOSFET. The TG driver draws power from the BOOST pin and returns the SW pin, providing true floating drive to the top MOSFET.", 15 BOOST "Top Gate Driver Supply. The BOOST pin supplies power to the floating TG driver. The BOOST pin should be bypassed to SW with a low ESR (X5R or better) 0.1uF ceramic capacitor. An additional fast recovery Schottky diode from (See Datasheet)", 16 VIN (in) "Input Voltage Sense Pin. This pin is connected to the high voltage input of the regulator and is used by the internal feedforward compensation circuitry to improve line regulation. This is not a supply pin."

## LTC3703HGN#TRPBF
designator U?
Synchronous Switching Regulator Controller, 16-pin SOP (GN-16), -40 to 150 degC, Pb-Free, Tape and Reel; Manufacturer: Linear Technology; PartNumber: LTC3703HGN#TRPBF; Frequency Sync Range: Up to 600kHz; Number of Outputs: 1; DatasheetVersion: Rev. C; PackageVersion: Rev. B, 03/2012; PackageReference: GN-16; PackageDescription: 16-Pin Plastic SSOP, Body 4.9 x 3.9 mm, Pitch 0.635 mm; Supplier 1: Digi-Key; Supplier Part Number 1: LTC3703HGN#TRPBF-ND; Packing: Tape and Reel; RoHS: TRUE; Mounting Technology: Surface Mount; ComponentLink1Description: Manufacturer URL; ComponentLink1URL: http://www.linear.com/; ComponentLink2Description: Datasheet; ComponentLink2URL: http://cds.linear.com/docs/en/datasheet/3703fc.pdf; ComponentLink3Description: Package Specification; ComponentLink3URL: http://cds.linear.com/docs/en/packaging/05081641_B_GN16.pdf
footprint LT-GN-16_N (SOP, 16-Leads, Body 5x4mm, Pitch 0.635mm, IPC Medium Density)
footprint LT-GN-16_L (SOP, 16-Leads, Body 5x4mm, Pitch 0.635mm, IPC High Density)
footprint LT-GN-16_M (SOP, 16-Leads, Body 5x4mm, Pitch 0.635mm, IPC Low Density)
pins: 1 MODE/SYNC (in) "Pulse Skip Mode Enable/Sync Pin. This multifunction pin provides Pulse Skip Mode enable/disable control and an external clock input for synchronization of the internal oscillator. Pulling this pin below 0.8V or to an (See Datasheet)", 2 FSET (in) "Frequency Set. A resistor connected to this pin sets the free running frequency of the internal oscillator. See applications section for resistor value selection details.", 3 COMP "Loop Compensation. This pin is connected directly to the output of the internal error amplifier. An RC network is used at the COMP pin to compensate the feedback loop for optimal transient response.", 4 FB (in) "Feedback Input. Connect FB through a resistor divider network to VOUT to set the output voltage. Also connect the loop compensation network from COMP to FB.", 5 IMAX (in) "Current Limit Set. The IMAX pin sets the current limit comparator threshold. If the voltage drop across the bottom MOSFET exceeds the magnitude of the voltage at IMAX, the controller goes into current limit. The IMAX pin has (See Datasheet)", 6 INV (in) "Top/Bottom Gate Invert. Pulling this pin above 2V sets the controller to operate in step-up (boost) mode with the TG output driving the synchronous MOSFET and the BG output driving the main switch. Below 1V, the controller (See Datasheet)", 7 RUN/SS (in) "Run/Soft-Start. Pulling RUN/SS below 0.9V will shut down the LTC3703, turn off both of the external MOSFET switches and reduce the quiescent supply current to 50uA. A capacitor from RUN/SS to ground will control the turn-on (See Datasheet)", 8 GND (power) "Ground Pin.", 9 BGRTN "Bottom Gate Return. This pin connects to the source of the pull-down MOSFET in the BG driver and is normally connected to ground. Connecting negative supply to this pin allows the synchronous MOSFET’s gate to be pulle(See Datasheet)", 10 BG (out) "Bottom Gate Drive. The BG pin drives the gate of the bottom N-channel synchronous switch MOSFET. This pin swings from BGRTN to DRVCC.", 11 DRVCC (power) "Driver Power Supply Pin. DRVCC provides power to the BG output driver. This pin should be connected to a voltage high enough to fully turn on the external MOSFETs, normally 10V to 15V for logic level threshold MOSFETs. DRVCC (See Datasheet)", 12 VCC (power) "Main Supply Pin. All internal circuits except the output drivers are powered from this pin. VCC should be connected to a low noise power supply voltage between 9V and 15V and should be bypassed to GND (Pin 8) with at least a (See Datasheet)", 13 SW "Switch Node Connection to Inductor and Bootstrap Capacitor. Voltage swing at this pin is from a Schottky diode (external) voltage drop below ground VIN.", 14 TG (out) "Top Gate Drive. The TG pin drives the gate of the top N channel synchronous switch MOSFET. The TG driver draws power from the BOOST pin and returns the SW pin, providing true floating drive to the top MOSFET.", 15 BOOST "Top Gate Driver Supply. The BOOST pin supplies power to the floating TG driver. The BOOST pin should be bypassed to SW with a low ESR (X5R or better) 0.1uF ceramic capacitor. An additional fast recovery Schottky diode from (See Datasheet)", 16 VIN (in) "Input Voltage Sense Pin. This pin is connected to the high voltage input of the regulator and is used by the internal feedforward compensation circuitry to improve line regulation. This is not a supply pin."